# EAGLE library part MC14053B (library Eagle_CAD_parts)
IC MUX/DEMUX TRIPLE 2X1
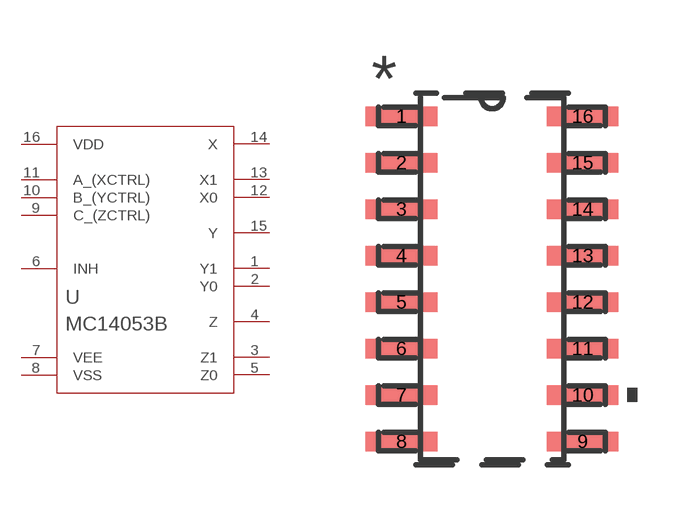
[diagram p33: symbol with the pads of 16-SOIC; footprint 16-SOIC]

Designator prefix U

## MC14053B (DIGIKEY_PART_NUMBER: MC14053BDR2GOSCT-ND; MANUFACTURER_PART_NUMBER: MC14053BDR2G; VENDOR: ON Semiconductor)  [16-SOIC]
1  Y1
2  Y0
3  Z1
4  Z
5  Z0
6  INH  in
7  VEE  pwr
8  VSS  pwr
9  C_(ZCTRL)  in
10  B_(YCTRL)  in
11  A_(XCTRL)  in
12  X0
13  X1
14  X
15  Y
16  VDD  pwr

## MC14053BSOIC-16-M (MANUFACTURER_PART_NUMBER: MC14053BDR2G; VENDOR: ON Semiconductor)  [16-SOIC]
Pads as for 16-SOIC

## MC14053BSOIC-16-L (MANUFACTURER_PART_NUMBER: MC14053BDR2G; VENDOR: ON Semiconductor)  [16-SOIC]
Pads as for 16-SOIC

## Footprint 16-SOIC (pad centres in mm)
smd 1.956 x 0.533: 1 -2.477,4.445; 2 -2.477,3.175; 3 -2.477,1.905; 4 -2.477,0.635; 5 -2.477,-0.635; 6 -2.477,-1.905; 7 -2.477,-3.175; 8 -2.477,-4.445; 9 2.477,-4.445; 10 2.477,-3.175; 11 2.477,-1.905; 12 2.477,-0.635; 13 2.477,0.635; 14 2.477,1.905; 15 2.477,3.175; 16 2.477,4.445